# EAGLE library part CONNECTOR-6 (library HyTechDevices)
Mini-Fit Junior connector 6 pole Source: http://www.molex.com
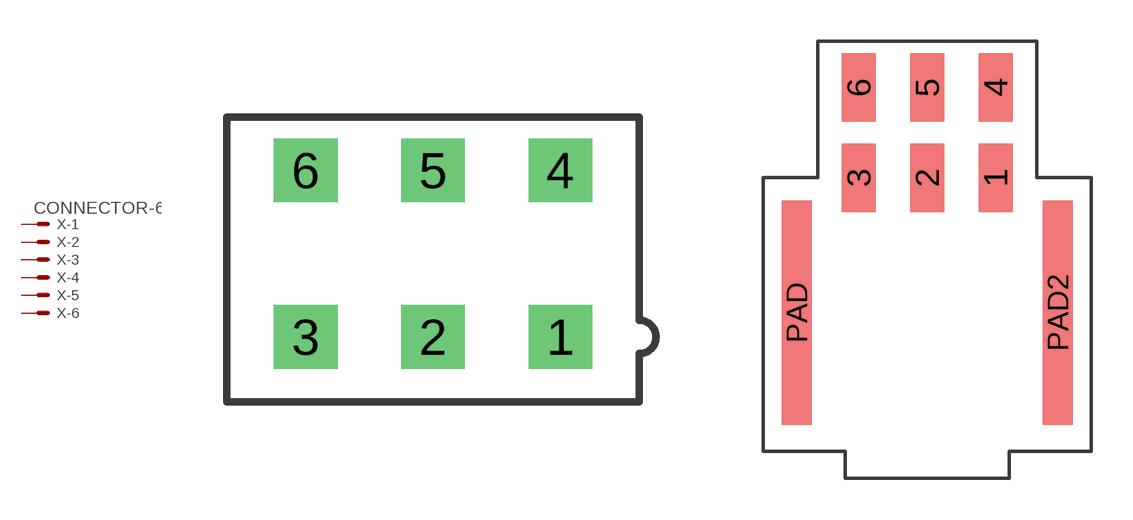
[diagram p1: symbol with the pads of 39281063; footprints 39281063, 1054051206]

Designator prefix X; gates -1=MV -2=M -3=M -4=M -5=M -6=M

## CONNECTOR-6 (MPN: 95566-61002; OC_FARNELL: unknown; OC_NEWARK: 22K8620)  [39281063]
1  -1:S  pas
2  -2:S  pas
3  -3:S  pas
4  -4:S  pas
5  -5:S  pas
6  -6:S  pas

## CONNECTOR-6NANO-FIT_RIGHT_ANGLE-6-SURFACE  [1054051206]
Pads as for 39281063

## CONNECTOR-6NANO-FIT_VERTICAL-6  [1053101206]
Pads as for 39281063

## Footprint 39281063 (pad centres in mm)
Mini-Fit Junior connector 6 pole Source: http://www.molex.com
drill 1.4 square: 1 4.2,-2.75; 2 0,-2.75; 3 -4.2,-2.75; 4 4.2,2.75; 5 0,2.75; 6 -4.2,2.75

## Footprint 1054051206 (pad centres in mm)
smd 1.24 x 2.5: 1 2.5,0; 2 0,0; 3 -2.5,0; 4 2.5,3.3; 5 0,3.3; 6 -2.5,3.3
smd 1.1 x 8.2: PAD -4.77,-4.93; PAD2 4.77,-4.93

## Footprint 1053101206 (pad centres in mm)
drill 1.2: 1 -2.5,0; 2 0,0; 3 2.5,0; 4 -2.5,2.5; 5 0,2.5; 6 2.5,2.5
hole 1.3 at -1.25,-1.34